# Altium schematic symbol library Optic transceiver.SchLib: 3 symbols
Pins are listed as number, name and electrical type; pins without a type are passive.

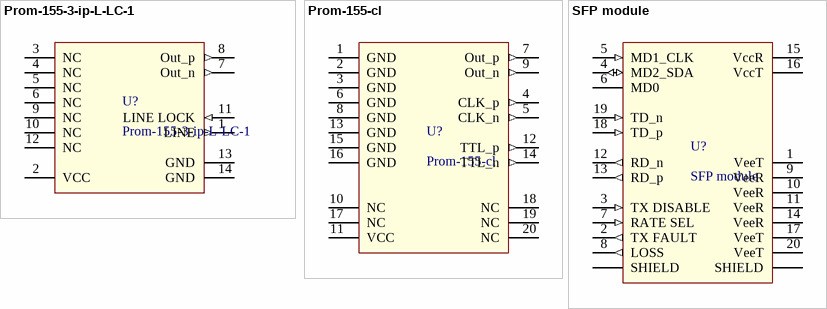
[diagram p0: symbols Prom-155-3-ip-L-LC-1 to SFP module]

## Prom-155-3-ip-L-LC-1
designator U?
pins: 1 LINE (out) "LVPECL line state signal. If 0 signal is not possible.", 2 VCC (power), 3 NC (power), 4 NC (power), 5 NC (power), 6 NC (power), 7 Out_n (out) "Inverting output pin.", 8 Out_p (out) "Non inverting output pin.", 9 NC (power), 10 NC (power), 11 LINE LOCK (in) "Block data receiving. LVPECL.", 12 NC, 13 GND, 14 GND

## Prom-155-cl
designator U?
footprint Prom-155-cl
pins: 1 GND (power), 2 GND (power), 3 GND (power), 4 CLK_p (out) "Non inverting pin.", 5 CLK_n (out) "Inverting pin.", 6 GND (power), 7 Out_p (out) "Non inverting output pin.", 8 GND (power), 9 Out_n (out) "Inverting output pin.", 10 NC, 11 VCC (power) "Inverting output pin.", 12 TTL_p (out) "Non inverting output pin.", 13 GND (power), 14 TTL_n (out) "Inverting output pin.", 15 GND (power), 16 GND (power), 17 NC, 18 NC, 19 NC, 20 NC

## SFP module
designator U?
SFP module 20-pin
footprint SFP Cage plus 20-pin slot; pin to pad S1>S1+S2+S3+S4+S5+S6+S7+S8+S9+S10+S11+S12+S13+S14+S15+S16+S17+S18+S19+S20
footprint SFP Cage plus 20-pin slot mod
pins: 1 VeeT (power) "Transmitter ground", 2 TX FAULT (out) "Transmitter Fault Indication.  TX Fault is an open collector/drain output, which should be pulled up with a 4.7K – 10KΩ resistor", 3 TX DISABLE (in) "Transmitter Disable.  TX disable is an input that is used to shut down the transmitter optical output. It is pulled up.", 4 MD2_SDA (io) "Data line for Serial ID.", 5 MD1_CLK (in) "Clock line for Serial ID.", 6 MD0 "Grounded within the module.", 7 RATE SEL (in), 8 LOSS (out) "Loss of Signal. LOS (Loss of Signal) is an open collector/drain output, which should be pulled up with a 4.7K - 10k. Pull up voltage between 2.0V and VccT, R+0.3V. When high, this output indicates the received optical power is below the worst-case receiver sensitivity (as defined by the standardin use). Low indicates normal operation. In the low state, the output will be pulled to < 0.8V.", 9 VeeR (power) "Receiver Ground.", 10 VeeR (power) "Receiver Ground.", 11 VeeR (power) "Receiver Ground.", 12 RD_n (out) "Inv. Received Data Out. RD-/+: These are the differential receiver outputs. They are AC coupled 100Ω differential lines which should be terminated with 100Ω (differential) at the user SERDES. The AC coupling is done inside the module and is thus not required on the host board.", 13 RD_p (out) "Received Data Out. RD-/+: These are the differential receiver outputs. They are AC coupled 100Ω differential lines which should be terminated with 100Ω (differential) at the user SERDES. The AC coupling is done inside the module and is thus not required on the host board.", 14 VeeR (power) "Receiver Ground.", 15 VccR (power) "Receiver Power.", 16 VccT (power) "Transmitter Power.", 17 VeeT (power) "Transmitter Ground.", 18 TD_p (in) "TD-/+: These are the differential transmitter inputs. They are AC-coupled, differential lines with 100Ω differential termination inside the module. The AC coupling is done inside the module and isthus not required on the host board.", 19 TD_n (in) "Inv.Received Data Out. RD-/+: These are the differential receiver outputs. They are AC coupled 100Ω differential lines which should be terminated with 100Ω (differential) at the user SERDES. The AC coupling is done inside the module and is thus not required on the host board.", 20 VeeT (power) "Transmitter Ground.", S1, S13, S14, S15, S16, S17, S18, S19, S20 SHIELD "Transmitter Ground.", S11, S12 SHIELD "Transmitter Ground."